# EAGLE library part TC76XXX (library microcodes)
TC7662B/TC7660S
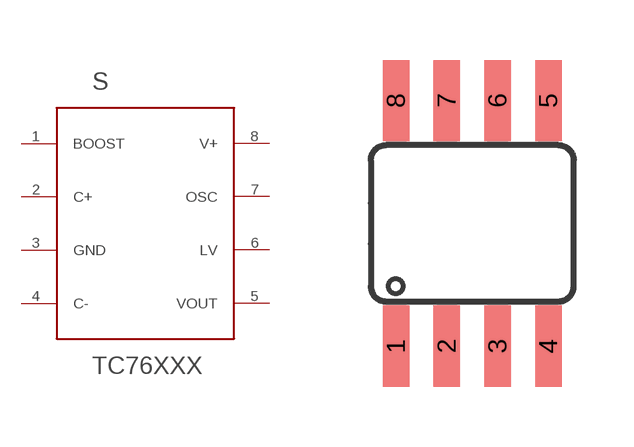
[diagram p7: symbol with the pads of SOIC8; footprint SOIC8]

Designator prefix S

## TC76XXX  [SOIC8]
1  BOOST  in
2  C+
3  GND  pwr
4  C-
5  VOUT  out
6  LV
7  OSC
8  V+  pwr

## Footprint SOIC8 (pad centres in mm)
SOIC 150 mil without dissipation pad. based on soic8 footprint from the maxim library. I've changed tPlace elements, named the pins and fixed a weird misalignment on the third pin of the bottom row which I suppose it was the designer's signature.
smd 0.66 x 2.032: 1 -1.905,-3.073; 2 -0.635,-3.073; 3 0.635,-3.073; 4 1.905,-3.073; 5 1.905,3.073; 6 0.635,3.073; 7 -0.635,3.073; 8 -1.905,3.073